# Altium schematic symbol library HMTSW-101-X-X-S-X.SchLib: 1 symbol
Pins are listed as number, name and electrical type; pins without a type are passive.

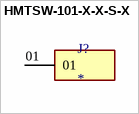
[diagram p0: symbol HMTSW-101-X-X-S-X]

## HMTSW-101-X-X-S-X
designator J?
CONN HEADER VERT 1POS; MF: Samtec; MP: HMTSW-101-07-G-S-230; SnapEDA_Link: https://www.snapeda.com/parts/HMTSW-101-07-G-S-230/Samtec/view-part/?ref=snap; Package: None; Value: *; Check_prices: https://www.snapeda.com/parts/HMTSW-101-07-G-S-230/Samtec/view-part/?ref=eda
footprint SAMTEC_HMTSW-101-X-X-S-X
pins: 01